# EAGLE library part TEXAS_INSTRUMENTS-GREEN_PHASE_SHIFTED_REGULATOR-UCC28951PWR (library Module_Regulators)
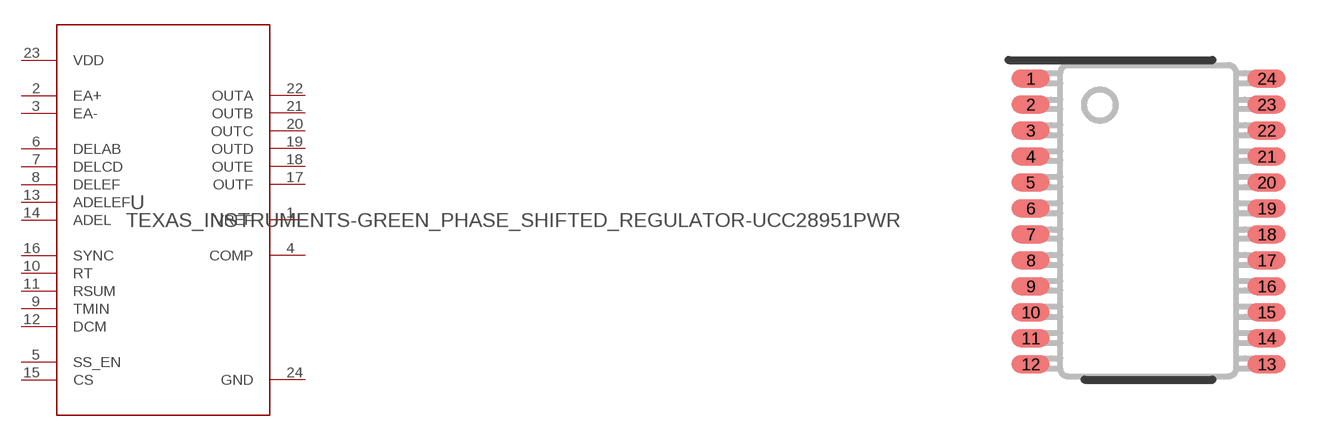
[diagram p32: symbol with the pads of TEXAS_INSTRUMENTS-GREEN_PHASE_SHIFTED_REGULATOR-UCC28951PWR; footprint TEXAS_INSTRUMENTS-GREEN_PHASE_SHIFTED_REGULATOR-UCC28951PWR]

Designator prefix U

## TEXAS_INSTRUMENTS-GREEN_PHASE_SHIFTED_REGULATOR-UCC28951PWR (MANUFACTURER: Texas Instruments; PARTNUMBER: UCC28951PWR; REFDES: RefDes; TYPE: TYPE; VALUE: Value)  [TEXAS_INSTRUMENTS-GREEN_PHASE_SHIFTED_REGULATOR-UCC28951PWR]
1  VREF  out
2  EA+  in
3  EA-  in
4  COMP
5  SS_EN  in
6  DELAB  in
7  DELCD  in
8  DELEF  in
9  TMIN  in
10  RT  in
11  RSUM  in
12  DCM  in
13  ADELEF  in
14  ADEL  in
15  CS  in
16  SYNC
17  OUTF  out
18  OUTE  out
19  OUTD  out
20  OUTC  out
21  OUTB  out
22  OUTA  out
23  VDD  pwr
24  GND  pwr

## Footprint TEXAS_INSTRUMENTS-GREEN_PHASE_SHIFTED_REGULATOR-UCC28951PWR (pad centres in mm)
smd 0.95 x 0.45: 1 -2.95,3.575; 2 -2.95,2.925; 3 -2.95,2.275; 4 -2.95,1.625; 5 -2.95,0.975; 6 -2.95,0.325; 7 -2.95,-0.325; 8 -2.95,-0.975; 9 -2.95,-1.625; 10 -2.95,-2.275; 11 -2.95,-2.925; 12 -2.95,-3.575; 13 2.95,-3.575; 14 2.95,-2.925; 15 2.95,-2.275; 16 2.95,-1.625; 17 2.95,-0.975; 18 2.95,-0.325; 19 2.95,0.325; 20 2.95,0.975; 21 2.95,1.625; 22 2.95,2.275; 23 2.95,2.925; 24 2.95,3.575